# Altium footprint library MR60PB-M.PcbLib: 1 footprints
Each footprint in its own frame and in the unit in brackets; x right, y up, seen from the top. Pads: shape width x height; smd on the part's side, far side on the other; paste and mask are expansions set on the pad; w line width, h text height; cw(c..) or ccw(c..) is an arc to the next point about the centre after c.
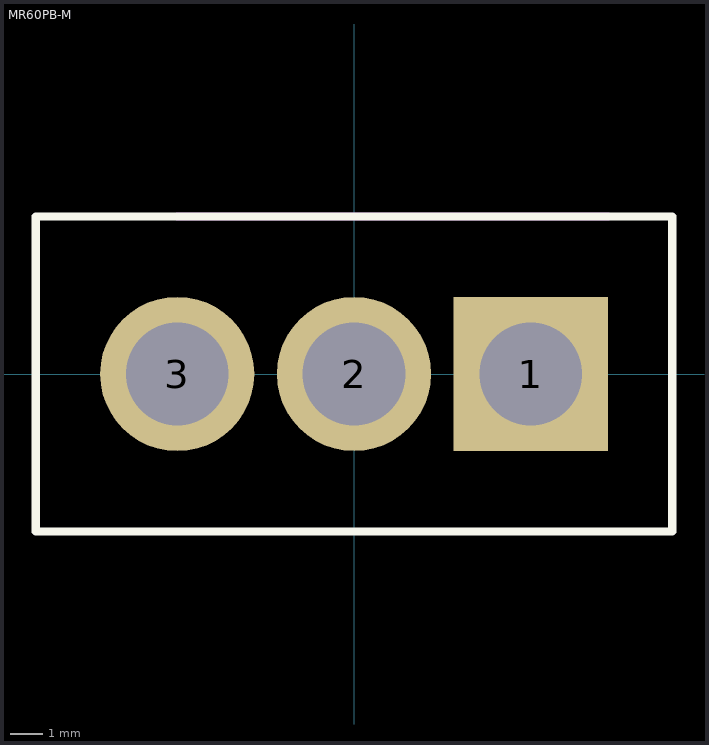
[diagram p0: the footprint, top view; thin cyan lines are the x and y axes]

## MR60PB-M [mm]
pads (3):
  rect 4.8x4.8 hole 3.2: 1(5.5,0)
  round 4.8 hole 3.2: 2(0,0) 3(-5.5,0)
Top Overlay:
  lines w0.254: -9.9,-4.9 -9.9,0 -9.9,4.9 9.9,4.9 9.9,0 9.9,-4.9 -9.9,-4.9
Mechanical 1:
  lines w0.254: -5.5,4.9 7.9,4.9
3D body "MR60PB-M.STEP": height 14.19, standoff -3.21, extent -10.1,-4.9 10.1,4.9